# Altium schematic symbol library Active-MOSFET.SchLib: 3 symbols
Pins are listed as number, name and electrical type; pins without a type are passive.

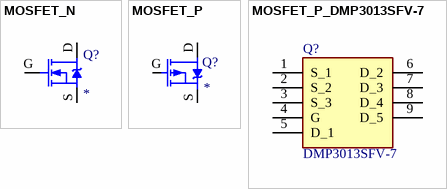
[diagram p0: symbols MOSFET_N to MOSFET_P_DMP3013SFV-7]

## MOSFET_N
designator Q?
N沟道场效应管; Manufacturer_Name: *; Manufacturer_Part_Number: *
footprint SOT23-3 (SOT23, 3-Leads, Body 2.90x2.40mm, Pitch 0.95mm, IPC Medium Density)
footprint TO252 (252晶体管)
footprint SOT523
pins: D, G, S

## MOSFET_P
designator Q?
P沟道场效应管; Manufacturer_Name: *; Manufacturer_Part_Number: *
footprint SOT23-3 (SOT23, 3-Leads, Body 2.90x2.40mm, Pitch 0.95mm, IPC Medium Density)
footprint TO252 (252晶体管)
footprint SOT523
pins: D, G, S

## MOSFET_P_DMP3013SFV-7
designator Q?, comment DMP3013SFV-7
P沟道场效应管; Manufacturer_Name: ALLPOWER(铨力); Manufacturer_Part_Number: AP15P03Q; Manufacturer_Name_1: Diodes Inc.; Manufacturer_Part_Number_1: DMP3013SFV-7(DMP3013SFV-3); LCSC: C471910
footprint DMP3013SFV7
pins: 1 S_1, 2 S_2, 3 S_3, 4 G, 5 D_1, 6 D_2, 7 D_3, 8 D_4, 9 D_5